# Altium schematic symbol library LM016L.SchLib: 1 symbol
Pins are listed as number, name and electrical type; pins without a type are passive.

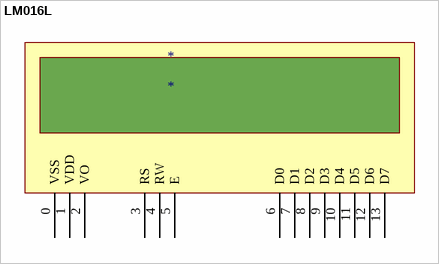
[diagram p0: symbol LM016L]

## LM016L
designator *
pins: 0 VSS, 1 VDD, 2 VO, 3 RS, 4 RW, 5 E, 6 D0, 7 D1, 8 D2, 9 D3, 10 D4, 11 D5, 12 D6, 13 D7